# Altium integrated library Altium_EMI_Coil.IntLib: 23 symbols
Pins are listed as number, name and electrical type; pins without a type are passive.

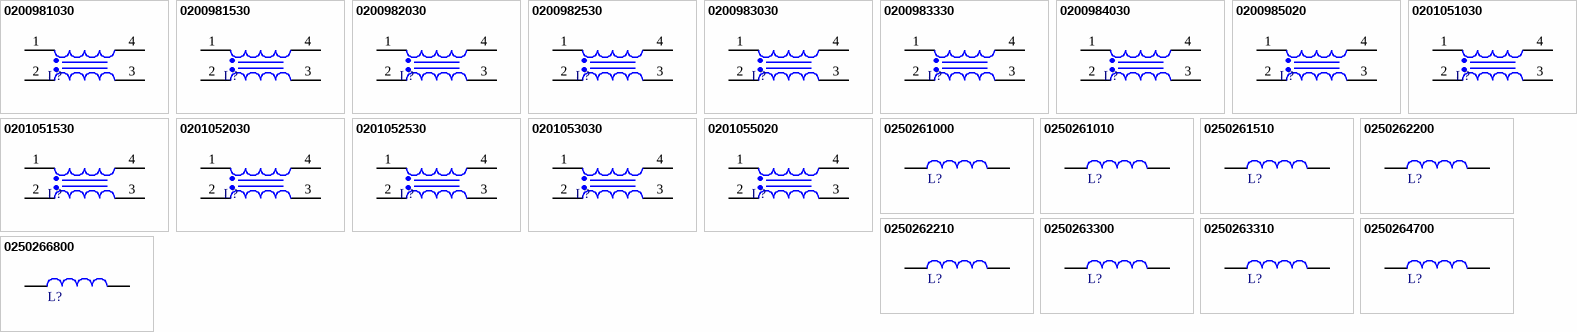
[diagram p0: symbols 0200981030 to 0250266800]

## 0200981030
designator L?, comment 10mH  (value not drawn)
Common Mode Choke,  10mH, UU9.8; Mounting Technology: Through Hole; Rated Inductance: 10mH; Manufacture  Name: N/A; Manufacture  SN: N/A; Supplier 1 Name: Mouser; Supplier 1 SN: N/A; Supplier 2 Name: Digi-Key; Supplier 2 SN: N/A; Supplier 1 URL: N/A; Supplier 3 Name: thegioiic; Supplier 3 SN: N/A; Supplier 3 URL: https://www.thegioiic.com/cuon-cam-10mh-uu9-8-103; ComponentLink2Description: Datasheet; ComponentLink2URL: N/A; Manufacturer: N/A; Manufacturer Part Number: N/A; Operating Temperature: N/A; Packaging: N/A; Rated Current: N/A; Size: N/A; Supplier 2 URL: N/A
footprint WE-TFC_UU9.8V (Common Mode Power Line Choke, THT, 4-leads, body 17x11.5mm)
pins: 1, 2, 3, 4

## 0200981530
designator L?, comment 153mH  (value not drawn)
Common Mode Choke,  153mH, UU9.8; Mounting Technology: Through Hole; Rated Inductance: 153mH; Manufacture  Name: N/A; Manufacture  SN: N/A; Supplier 1 Name: Mouser; Supplier 1 SN: N/A; Supplier 2 Name: Digi-Key; Supplier 2 SN: N/A; Supplier 1 URL: N/A; Supplier 3 Name: thegioiic; Supplier 3 SN: N/A; Supplier 3 URL: https://www.thegioiic.com/cuon-cam-15mh-uu9-8-153; ComponentLink2Description: Datasheet; ComponentLink2URL: N/A; Manufacturer: N/A; Manufacturer Part Number: N/A; Operating Temperature: N/A; Packaging: N/A; Rated Current: N/A; Size: N/A; Supplier 2 URL: N/A
footprint WE-TFC_UU9.8V (Common Mode Power Line Choke, THT, 4-leads, body 17x11.5mm)
pins: 1, 2, 3, 4

## 0200982030
designator L?, comment 20mH  (value not drawn)
Common Mode Choke,  20mH, UU9.8; Mounting Technology: Through Hole; Rated Inductance: 20mH; Manufacture  Name: N/A; Manufacture  SN: N/A; Supplier 1 Name: Mouser; Supplier 1 SN: N/A; Supplier 2 Name: Digi-Key; Supplier 2 SN: N/A; Supplier 1 URL: N/A; Supplier 3 Name: thegioiic; Supplier 3 SN: N/A; Supplier 3 URL: https://www.thegioiic.com/cuon-cam-20mh-uu9-8-203; ComponentLink2Description: Datasheet; ComponentLink2URL: N/A; Manufacturer: N/A; Manufacturer Part Number: N/A; Operating Temperature: N/A; Packaging: N/A; Rated Current: N/A; Size: N/A; Supplier 2 URL: N/A
footprint WE-TFC_UU9.8V (Common Mode Power Line Choke, THT, 4-leads, body 17x11.5mm)
pins: 1, 2, 3, 4

## 0200982530
designator L?, comment 25mH  (value not drawn)
Common Mode Choke,  25mH, UU9.8; Mounting Technology: Through Hole; Rated Inductance: 25mH; Manufacture  Name: N/A; Manufacture  SN: N/A; Supplier 1 Name: Mouser; Supplier 1 SN: N/A; Supplier 2 Name: Digi-Key; Supplier 2 SN: N/A; Supplier 1 URL: N/A; Supplier 3 Name: thegioiic; Supplier 3 SN: N/A; Supplier 3 URL: https://www.thegioiic.com/cuon-cam-25mh-uu9-8-253; ComponentLink2Description: Datasheet; ComponentLink2URL: N/A; Manufacturer: N/A; Manufacturer Part Number: N/A; Operating Temperature: N/A; Packaging: N/A; Rated Current: N/A; Size: N/A; Supplier 2 URL: N/A
footprint WE-TFC_UU9.8V (Common Mode Power Line Choke, THT, 4-leads, body 17x11.5mm)
pins: 1, 2, 3, 4

## 0200983030
designator L?, comment 30mH  (value not drawn)
Common Mode Choke,  30mH, UU9.8; Mounting Technology: Through Hole; Rated Inductance: 30mH; Manufacture  Name: N/A; Manufacture  SN: N/A; Supplier 1 Name: Mouser; Supplier 1 SN: N/A; Supplier 2 Name: Digi-Key; Supplier 2 SN: N/A; Supplier 1 URL: N/A; Supplier 3 Name: thegioiic; Supplier 3 SN: N/A; Supplier 3 URL: https://www.thegioiic.com/cuon-cam-30mh-uu9-8-303; ComponentLink2Description: Datasheet; ComponentLink2URL: N/A; Manufacturer: N/A; Manufacturer Part Number: N/A; Operating Temperature: N/A; Packaging: N/A; Rated Current: N/A; Size: N/A; Supplier 2 URL: N/A
footprint WE-TFC_UU9.8V (Common Mode Power Line Choke, THT, 4-leads, body 17x11.5mm)
pins: 1, 2, 3, 4

## 0200983330
designator L?, comment 33mH  (value not drawn)
Common Mode Choke,  33mH, UU9.8; Mounting Technology: Through Hole; Rated Inductance: 33mH; Manufacture  Name: N/A; Manufacture  SN: N/A; Supplier 1 Name: Mouser; Supplier 1 SN: N/A; Supplier 2 Name: Digi-Key; Supplier 2 SN: N/A; Supplier 1 URL: N/A; Supplier 3 Name: thegioiic; Supplier 3 SN: N/A; Supplier 3 URL: https://www.thegioiic.com/cuon-cam-33mh-uu9-8-333; ComponentLink2Description: Datasheet; ComponentLink2URL: N/A; Manufacturer: N/A; Manufacturer Part Number: N/A; Operating Temperature: N/A; Packaging: N/A; Rated Current: N/A; Size: N/A; Supplier 2 URL: N/A
footprint WE-TFC_UU9.8V (Common Mode Power Line Choke, THT, 4-leads, body 17x11.5mm)
pins: 1, 2, 3, 4

## 0200984030
designator L?, comment 40mH  (value not drawn)
Common Mode Choke,  40mH, UU9.8; Mounting Technology: Through Hole; Rated Inductance: 40mH; Manufacture  Name: N/A; Manufacture  SN: N/A; Supplier 1 Name: Mouser; Supplier 1 SN: N/A; Supplier 2 Name: Digi-Key; Supplier 2 SN: N/A; Supplier 1 URL: N/A; Supplier 3 Name: thegioiic; Supplier 3 SN: N/A; Supplier 3 URL: https://www.thegioiic.com/cuon-cam-40mh-uu9-8-403; ComponentLink2Description: Datasheet; ComponentLink2URL: N/A; Manufacturer: N/A; Manufacturer Part Number: N/A; Operating Temperature: N/A; Packaging: N/A; Rated Current: N/A; Size: N/A; Supplier 2 URL: N/A
footprint WE-TFC_UU9.8V (Common Mode Power Line Choke, THT, 4-leads, body 17x11.5mm)
pins: 1, 2, 3, 4

## 0200985020
designator L?, comment 5mH  (value not drawn)
Common Mode Choke,  5mH, UU9.8; Mounting Technology: Through Hole; Rated Inductance: 5mH; Manufacture  Name: N/A; Manufacture  SN: N/A; Supplier 1 Name: Mouser; Supplier 1 SN: N/A; Supplier 2 Name: Digi-Key; Supplier 2 SN: N/A; Supplier 1 URL: N/A; Supplier 3 Name: thegioiic; Supplier 3 SN: N/A; Supplier 3 URL: https://www.thegioiic.com/cuon-cam-5mh-uu9-8-502; ComponentLink2Description: Datasheet; ComponentLink2URL: N/A; Manufacturer: N/A; Manufacturer Part Number: N/A; Operating Temperature: N/A; Packaging: N/A; Rated Current: N/A; Size: N/A; Supplier 2 URL: N/A
footprint WE-TFC_UU9.8V (Common Mode Power Line Choke, THT, 4-leads, body 17x11.5mm)
pins: 1, 2, 3, 4

## 0201051030
designator L?, comment 10mH  (value not drawn)
Common Mode Choke,  10mH, UU10.5; Mounting Technology: Through Hole; Rated Inductance: 10mH; Manufacture  Name: N/A; Manufacture  SN: N/A; Supplier 1 Name: Mouser; Supplier 1 SN: N/A; Supplier 2 Name: Digi-Key; Supplier 2 SN: N/A; Supplier 1 URL: N/A; Supplier 3 Name: thegioiic; Supplier 3 SN: N/A; Supplier 3 URL: https://www.thegioiic.com/cuon-cam-10mh-uu10-5-103; ComponentLink2Description: Datasheet; ComponentLink2URL: N/A; Manufacturer: N/A; Manufacturer Part Number: N/A; Operating Temperature: N/A; Packaging: N/A; Rated Current: N/A; Size: N/A; Supplier 2 URL: N/A
footprint WE-TFC_UU10.5V
pins: 1, 2, 3, 4

## 0201051530
designator L?, comment 15mH  (value not drawn)
Common Mode Choke,  15mH, UU10.5; Mounting Technology: Through Hole; Rated Inductance: 15mH; Manufacture  Name: N/A; Manufacture  SN: N/A; Supplier 1 Name: Mouser; Supplier 1 SN: N/A; Supplier 2 Name: Digi-Key; Supplier 2 SN: N/A; Supplier 1 URL: N/A; Supplier 3 Name: thegioiic; Supplier 3 SN: N/A; Supplier 3 URL: https://www.thegioiic.com/cuon-cam-15mh-uu10-5-153; ComponentLink2Description: Datasheet; ComponentLink2URL: N/A; Manufacturer: N/A; Manufacturer Part Number: N/A; Operating Temperature: N/A; Packaging: N/A; Rated Current: N/A; Size: N/A; Supplier 2 URL: N/A
footprint WE-TFC_UU10.5V
pins: 1, 2, 3, 4

## 0201052030
designator L?, comment 20mH  (value not drawn)
Common Mode Choke,  20mH, UU10.5; Mounting Technology: Through Hole; Rated Inductance: 20mH; Manufacture  Name: N/A; Manufacture  SN: N/A; Supplier 1 Name: Mouser; Supplier 1 SN: N/A; Supplier 2 Name: Digi-Key; Supplier 2 SN: N/A; Supplier 1 URL: N/A; Supplier 3 Name: thegioiic; Supplier 3 SN: N/A; Supplier 3 URL: https://www.thegioiic.com/cuon-cam-20mh-uu10-5-203; ComponentLink2Description: Datasheet; ComponentLink2URL: N/A; Manufacturer: N/A; Manufacturer Part Number: N/A; Operating Temperature: N/A; Packaging: N/A; Rated Current: N/A; Size: N/A; Supplier 2 URL: N/A
footprint WE-TFC_UU10.5V
pins: 1, 2, 3, 4

## 0201052530
designator L?, comment 25mH  (value not drawn)
Common Mode Choke,  25mH, UU10.5; Mounting Technology: Through Hole; Rated Inductance: 25mH; Manufacture  Name: N/A; Manufacture  SN: N/A; Supplier 1 Name: Mouser; Supplier 1 SN: N/A; Supplier 2 Name: Digi-Key; Supplier 2 SN: N/A; Supplier 1 URL: N/A; Supplier 3 Name: thegioiic; Supplier 3 SN: N/A; Supplier 3 URL: https://www.thegioiic.com/cuon-cam-25mh-uu10-5-253; ComponentLink2Description: Datasheet; ComponentLink2URL: N/A; Manufacturer: N/A; Manufacturer Part Number: N/A; Operating Temperature: N/A; Packaging: N/A; Rated Current: N/A; Size: N/A; Supplier 2 URL: N/A
footprint WE-TFC_UU10.5V
pins: 1, 2, 3, 4

## 0201053030
designator L?, comment 30mH  (value not drawn)
Common Mode Choke,  30mH, UU10.5; Mounting Technology: Through Hole; Rated Inductance: 30mH; Manufacture  Name: N/A; Manufacture  SN: N/A; Supplier 1 Name: Mouser; Supplier 1 SN: N/A; Supplier 2 Name: Digi-Key; Supplier 2 SN: N/A; Supplier 1 URL: N/A; Supplier 3 Name: thegioiic; Supplier 3 SN: N/A; Supplier 3 URL: https://www.thegioiic.com/cuon-cam-30mh-uu10-5-303; ComponentLink2Description: Datasheet; ComponentLink2URL: N/A; Manufacturer: N/A; Manufacturer Part Number: N/A; Operating Temperature: N/A; Packaging: N/A; Rated Current: N/A; Size: N/A; Supplier 2 URL: N/A
footprint WE-TFC_UU10.5V
pins: 1, 2, 3, 4

## 0201055020
designator L?, comment 5mH  (value not drawn)
Common Mode Choke,  5mH, UU10.5; Mounting Technology: Through Hole; Rated Inductance: 5mH; Manufacture  Name: N/A; Manufacture  SN: N/A; Supplier 1 Name: Mouser; Supplier 1 SN: N/A; Supplier 2 Name: Digi-Key; Supplier 2 SN: N/A; Supplier 1 URL: N/A; Supplier 3 Name: thegioiic; Supplier 3 SN: N/A; Supplier 3 URL: https://www.thegioiic.com/cuon-cam-5mh-uu10-5-502; ComponentLink2Description: Datasheet; ComponentLink2URL: N/A; Manufacturer: N/A; Manufacturer Part Number: N/A; Operating Temperature: N/A; Packaging: N/A; Rated Current: N/A; Size: N/A; Supplier 2 URL: N/A
footprint WE-TFC_UU10.5V
pins: 1, 2, 3, 4

## 0250261000
designator L?, comment 10µH, 3A  (value not drawn)
Toroidal Storage Choke,  10µH, 3A; Mounting Technology: Through Hole; Rated Current: 3A; Rated Inductance: 10µH; Manufacture  Name: N/A; Manufacture  SN: N/A; Supplier 1 Name: Mouser; Supplier 1 SN: N/A; Supplier 2 Name: Digi-Key; Supplier 2 SN: N/A; Supplier 1 URL: N/A; Supplier 3 Name: thegioiic; Supplier 3 SN: N/A; Supplier 3 URL: N/A; ComponentLink2Description: Datasheet; ComponentLink2URL: N/A; Manufacturer: N/A; Manufacturer Part Number: N/A; Operating Temperature: N/A; Packaging: N/A; Size: N/A; Supplier 2 URL: N/A
footprint Toroidal Storage Choke
pins: 1, 2

## 0250261010
designator L?, comment 100µH, 3A  (value not drawn)
Toroidal Storage Choke,  100µH, 3A; Manufacture  Name: Talema Group LLC; Manufacture  SN: DPO-3.0-100; Mounting Technology: Through Hole; Rated Current: 3A; Rated Inductance: 100µH; Supplier 1 Name: Mouser; Supplier 1 SN: N/A; Supplier 2 Name: Digi-Key; Supplier 2 SN: 1295-1171-ND; Supplier 1 URL: N/A; Supplier 3 Name: thegioiic; Supplier 3 SN: N/A; Supplier 3 URL: https://www.thegioiic.com/cuon-cam-xuyen-lo-5026-470-47uh-2a; ComponentLink2Description: Datasheet; ComponentLink2URL: https://talema.com/wp-content/uploads/datasheets/DP.pdf; Manufacturer: N/A; Manufacturer Part Number: N/A; Operating Temperature: N/A; Packaging: N/A; Size: N/A; Supplier 2 URL: https://www.digikey.com/en/products/detail/talema-group-llc/DPO-3-0-100/4172236
footprint Toroidal Storage Choke
pins: 1, 2

## 0250261510
designator L?, comment 150µH, 1A  (value not drawn)
Toroidal Storage Choke,  150µH, 1A; Manufacture  Name: Talema Group LLC; Manufacture  SN: DPO-1.0-150; Mounting Technology: Through Hole; Rated Current: 1A; Rated Inductance: 150µH; Supplier 1 Name: Mouser; Supplier 1 SN: N/A; Supplier 2 Name: Digi-Key; Supplier 2 SN: 1295-1165-ND; Supplier 1 URL: N/A; Supplier 3 Name: thegioiic; Supplier 3 SN: N/A; Supplier 3 URL: N/A; ComponentLink2Description: Datasheet; ComponentLink2URL: https://talema.com/wp-content/uploads/datasheets/DP.pdf; Manufacturer: N/A; Manufacturer Part Number: N/A; Operating Temperature: N/A; Packaging: N/A; Size: N/A; Supplier 2 URL: https://www.digikey.com/en/products/detail/talema-group-llc/DPO-1-0-150/4172230
footprint Toroidal Storage Choke
pins: 1, 2

## 0250262200
designator L?, comment 22µH, 3A  (value not drawn)
Toroidal Storage Choke,  22µH, 3A; Manufacture  Name: Talema Group LLC; Manufacture  SN: DPO-3.0-22; Mounting Technology: Through Hole; Rated Current: 3A; Rated Inductance: 22µH; Supplier 1 Name: Mouser; Supplier 1 SN: 580-32220C; Supplier 2 Name: Digi-Key; Supplier 2 SN: 1295-1173-ND; Supplier 1 URL: https://www.mouser.vn/ProductDetail/Murata-Power-Solutions/32220C?qs=94qWIstW55U3DD%2FKfB4KdQ%3D%3D; Supplier 3 Name: thegioiic; Supplier 3 SN: N/A; Supplier 3 URL: N/A; ComponentLink2Description: Datasheet; ComponentLink2URL: https://www.mouser.vn/datasheet/2/281/1/kmp_3200-2936232.pdf; Manufacturer: N/A; Manufacturer Part Number: N/A; Operating Temperature: N/A; Packaging: N/A; Size: N/A; Supplier 2 URL: https://www.digikey.com/en/products/detail/talema-group-llc/DPO-3-0-22/4172238
footprint Toroidal Storage Choke
pins: 1, 2

## 0250262210
designator L?, comment 220µH, 3A  (value not drawn)
Toroidal Storage Choke,  220µH, 1A; Manufacture  Name: Würth Elektronik; Manufacture  SN: 7447020; Rated Inductance: 38µH; Mounting Technology: Through Hole; Rated Current: 1A; Supplier 1 Name: Mouser; Supplier 1 SN: N/A; Supplier 2 Name: Digi-Key; Supplier 2 SN: 732-1429-ND; Supplier 1 URL: N/A; Supplier 3 Name: thegioiic; Supplier 3 SN: N/A; Supplier 3 URL: https://www.thegioiic.com/cuon-cam-xuyen-lo-5026-221-220uh-1a; ComponentLink2Description: Datasheet; ComponentLink2URL: https://www.we-online.com/katalog/datasheet/7447020.pdf; Manufacturer: N/A; Manufacturer Part Number: N/A; Operating Temperature: N/A; Packaging: N/A; Size: N/A; Supplier 2 URL: https://www.digikey.com/en/products/detail/w%C3%BCrth-elektronik/7447020/1638834
footprint Toroidal Storage Choke
pins: 1, 2

## 0250263300
designator L?, comment 33µH, 3A  (value not drawn)
Toroidal Storage Choke,  33µH, 3A; Manufacture  Name: BI Technologies / TT Electronics; Manufacture  SN: HM77-30004LFTR; Mounting Technology: Through Hole; Rated Current: 3A; Rated Inductance: 33µH; Supplier 1 Name: Mouser; Supplier 1 SN: 858-HM77-30004LFTR; Supplier 2 Name: Digi-Key; Supplier 2 SN: N/A; Supplier 1 URL: https://www.mouser.vn/ProductDetail/BI-Technologies-TT-Electronics/HM77-30004LFTR?qs=xb9WiAtyCdaKvyhbbFJrOw%3D%3D; Supplier 3 Name: thegioiic; Supplier 3 SN: N/A; Supplier 3 URL: https://www.thegioiic.com/cuon-cam-xuyen-lo-5026-330-33uh-3a; ComponentLink2Description: Datasheet; ComponentLink2URL: https://www.mouser.vn/datasheet/2/414/TTRB_S_A0008507266_1-2565452.pdf; Manufacturer: N/A; Manufacturer Part Number: N/A; Operating Temperature: N/A; Packaging: N/A; Size: N/A; Supplier 2 URL: N/A
footprint Toroidal Storage Choke
pins: 1, 2

## 0250263310
designator L?, comment 330µH, 500mA  (value not drawn)
Toroidal Storage Choke,  330µH, 500mA; Manufacture  Name: Talema Group LLC; Manufacture  SN: DPO-0.5-330; Mounting Technology: Through Hole; Rated Current: 500mA; Rated Inductance: 330µH; Supplier 1 Name: Mouser; Supplier 1 SN: N/A; Supplier 2 Name: Digi-Key; Supplier 2 SN: 1295-1162-ND; Supplier 1 URL: N/A; Supplier 3 Name: thegioiic; Supplier 3 SN: N/A; Supplier 3 URL: https://www.thegioiic.com/cuon-cam-xuyen-lo-5026-331-330uh-500ma; ComponentLink2Description: Datasheet; ComponentLink2URL: https://talema.com/wp-content/uploads/datasheets/DP.pdf; Manufacturer: N/A; Manufacturer Part Number: N/A; Operating Temperature: N/A; Packaging: N/A; Size: N/A; Supplier 2 URL: https://www.mouser.vn/ProductDetail/KEMET/HHBC10-0R8A0068V?qs=sGAEpiMZZMv126LJFLh8y1JvFyE9QUN2D4xkcLByYec%3D
footprint Toroidal Storage Choke
pins: 1, 2

## 0250264700
designator L?, comment 47µH, 2A  (value not drawn)
Toroidal Storage Choke,  47µH, 2A; Mounting Technology: Through Hole; Rated Current: 2A; Rated Inductance: 47µH; Manufacture  Name: N/A; Manufacture  SN: N/A; Supplier 1 Name: Mouser; Supplier 1 SN: N/A; Supplier 2 Name: Digi-Key; Supplier 2 SN: N/A; Supplier 1 URL: N/A; Supplier 3 Name: thegioiic; Supplier 3 SN: N/A; Supplier 3 URL: https://www.thegioiic.com/cuon-cam-xuyen-lo-5026-470-47uh-2a; ComponentLink2Description: Datasheet; ComponentLink2URL: N/A; Manufacturer: N/A; Manufacturer Part Number: N/A; Operating Temperature: N/A; Packaging: N/A; Size: N/A; Supplier 2 URL: N/A
footprint Toroidal Storage Choke
pins: 1, 2

## 0250266800
designator L?, comment 68µH, 3A  (value not drawn)
Toroidal Storage Choke,  68µH, 3A; Manufacture  Name: KEMET; Manufacture  SN: HHBC10-0R8A0068V; Mounting Technology: Through Hole; Rated Current: 3A; Rated Inductance: 68µH; Supplier 1 Name: Mouser; Supplier 1 SN: N/A; Supplier 2 Name: Digi-Key; Supplier 2 SN: N/A; Supplier 1 URL: N/A; Supplier 3 Name: thegioiic; Supplier 3 SN: N/A; Supplier 3 URL: https://www.thegioiic.com/cuon-cam-xuyen-lo-5026-680-68uh-3a; ComponentLink2Description: Datasheet; ComponentLink2URL: https://www.mouser.vn/datasheet/2/212/1/KEM_LF0050_HHBC-1487155.pdf; Manufacturer: N/A; Manufacturer Part Number: N/A; Operating Temperature: N/A; Packaging: N/A; Size: N/A; Supplier 2 URL: N/A
footprint Toroidal Storage Choke
pins: 1, 2